# Altium schematic symbol library 13F-39MNL.Schlib: 1 symbol
Pins are listed as number, name and electrical type; pins without a type are passive.

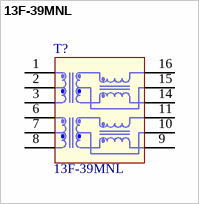
[diagram p0: symbol 13F-39MNL]

## 13F-39MNL
designator T?
10/100BASE-T SINGLE PORT SURFACE MOUNT MAGNETICS; ID: CMP-1000-0007; DefaultDesignator: T?; Manufacturer_PN: 13F-39MNL; ComponentLink1Description: Datasheet; ComponentLink1URL: http://www.ydschina.com/up_pic/201391715153440488.pdf
footprint SOP127P950X198-16L
pins: 1 TD+, 2 CT, 3 TD-, 6 RD+, 7 CT, 8 RD-, 9 RX-, 10 CT, 11 RX+, 14 TX-, 15 CT, 16 TX+